# EAGLE library part 16CH_ANALOG_MUX (library DSX_Library)
8-bit Microcontroller with Multiprotocol Smart Card Interface Source: Uploaded by Heiko Künzel <heiko.kuenzel@atg-gera.de> from ATG Automatisierungstechnik Gera Mon Mar 10 13:32:48 2003 Atmel-Library mit zusätzlich T83C5121-Prozessor im SSOP24-Package.
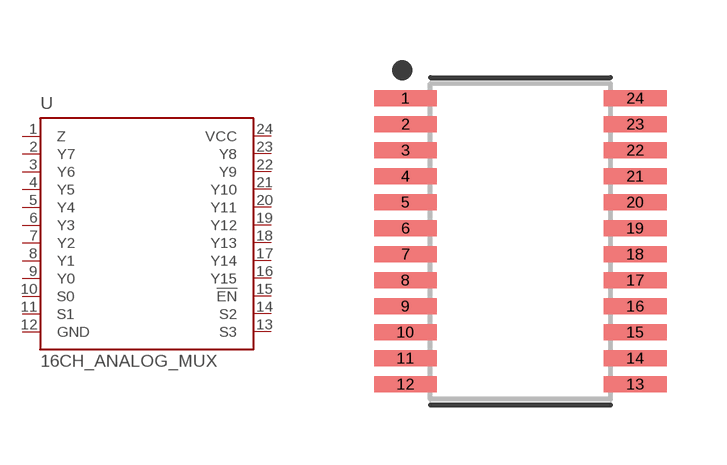
[diagram p6: symbol with the pads of SOP65P640X110-24N; footprint SOP65P640X110-24N]

Designator prefix U

## 16CH_ANALOG_MUX (OC_FARNELL: unknown; OC_NEWARK: unknown)  [SOP65P640X110-24N]
1  Z  out
2  Y7  in
3  Y6  in
4  Y5
5  Y4
6  Y3
7  Y2
8  Y1
9  Y0
10  S0
11  S1  in
12  GND  pwr
13  S3  in
14  S2  in
15  !EN  in
16  Y15  in
17  Y14  in
18  Y13  in
19  Y12  in
20  Y11  in
21  Y10  in
22  Y9  in
23  Y8  in
24  VCC  pwr

## Footprint SOP65P640X110-24N (pad centres in mm)
24-SOP, 0.65 mm pitch, 6.40 mm span, 7.80 X 4.40 X 1.10 mm body 24-pin SOP package with 0.65 mm pitch, 6.40 mm span with body size 7.80 X 4.40 X 1.10 mm
smd 1.572 x 0.407: 1 -2.872,3.575; 2 -2.872,2.925; 3 -2.872,2.275; 4 -2.872,1.625; 5 -2.872,0.975; 6 -2.872,0.325; 7 -2.872,-0.325; 8 -2.872,-0.975; 9 -2.872,-1.625; 10 -2.872,-2.275; 11 -2.872,-2.925; 12 -2.872,-3.575; 13 2.872,-3.575; 14 2.872,-2.925; 15 2.872,-2.275; 16 2.872,-1.625; 17 2.872,-0.975; 18 2.872,-0.325; 19 2.872,0.325; 20 2.872,0.975; 21 2.872,1.625; 22 2.872,2.275; 23 2.872,2.925; 24 2.872,3.575